# EAGLE library part 10CL006ZE144 (library Display_Custom)
Altera Cyclone 10 10CL006ZE144I8G
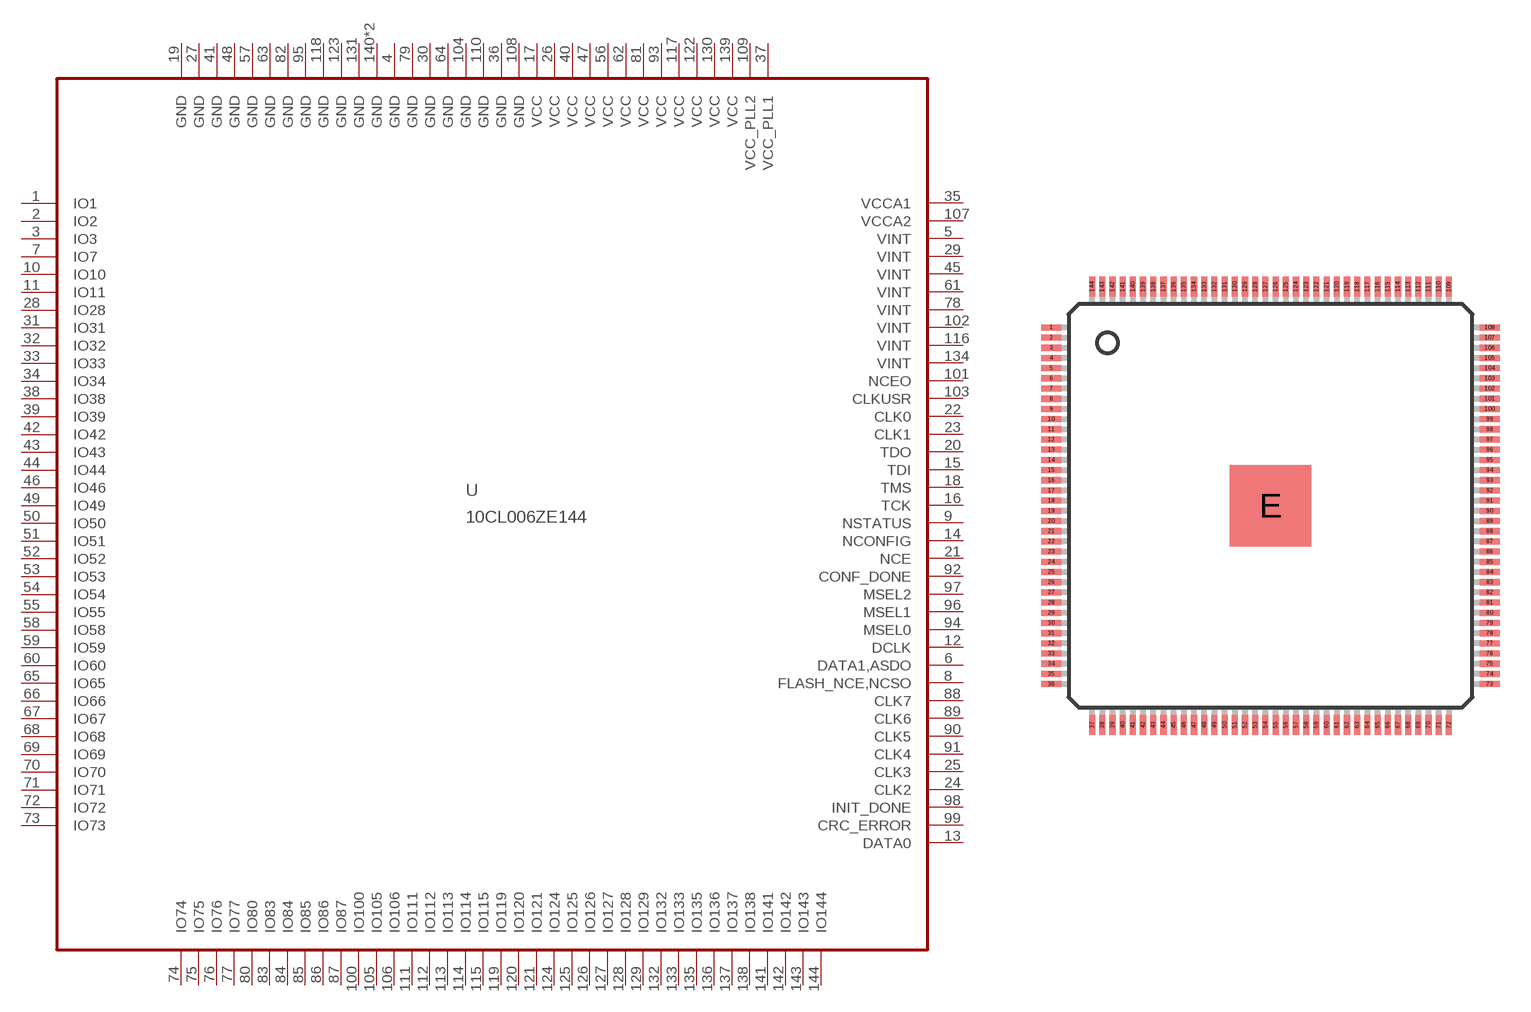
[diagram p0: symbol with the pads of EQFP144; footprint EQFP144]

Designator prefix -

## 10CL006ZE144  [EQFP144]
1  IO1  pas
2  IO2  pas
3  IO3  out
4  GND  pwr
5  VINT  pwr
6  DATA1,ASDO  in
7  IO7  out
8  FLASH_NCE,NCSO  in
9  NSTATUS  in
10  IO10
11  IO11
12  DCLK  in
13  DATA0  pwr
14  NCONFIG  in
15  TDI  in
16  TCK  in
17  VCC  pwr
18  TMS  in
19  GND  pwr
20  TDO  out
21  NCE  in
22  CLK0  pwr
23  CLK1  pwr
24  CLK2  in
25  CLK3  in
26  VCC  pwr
27  GND  pwr
28  IO28
29  VINT  pwr
30  GND  pwr
31  IO31
32  IO32
33  IO33
34  IO34
35  VCCA1  pwr
36  GND  pwr
37  VCC_PLL1  pwr
38  IO38
39  IO39
40  VCC  pwr
41  GND  pwr
42  IO42
43  IO43
44  IO44
45  VINT  pwr
46  IO46
47  VCC  pwr
48  GND  pwr
49  IO49
50  IO50
51  IO51
52  IO52
53  IO53
54  IO54
55  IO55
56  VCC  pwr
57  GND  pwr
58  IO58
59  IO59
60  IO60
61  VINT  pwr
62  VCC  pwr
63  GND  pwr
64  GND  pwr
65  IO65
66  IO66
67  IO67
68  IO68
69  IO69
70  IO70
71  IO71
72  IO72
73  IO73
74  IO74
75  IO75
76  IO76
77  IO77
78  VINT  pwr
79  GND  pwr
80  IO80
81  VCC  pwr
82  GND  pwr
83  IO83
84  IO84
85  IO85
86  IO86
87  IO87
88  CLK7  in
89  CLK6  in
90  CLK5  in
91  CLK4  in
92  CONF_DONE  in
93  VCC  pwr
94  MSEL0  in
95  GND  pwr
96  MSEL1  in
97  MSEL2  in
98  INIT_DONE  in
99  CRC_ERROR  in
100  IO100  pwr
101  NCEO  pwr
102  VINT  pwr
103  CLKUSR  pwr
104  GND  pwr
105  IO105
106  IO106
107  VCCA2  pwr
108  GND  pwr
109  VCC_PLL2  pwr
110  GND  pwr
111  IO111
112  IO112
113  IO113
114  IO114
115  IO115
116  VINT  pwr
117  VCC  pwr
118  GND  pwr
119  IO119
120  IO120
121  IO121
122  VCC  pwr
123  GND  pwr
124  IO124
125  IO125
126  IO126
127  IO127
128  IO128
129  IO129
130  VCC  pwr
131  GND  pwr
132  IO132
133  IO133
134  VINT  pwr
135  IO135
136  IO136
137  IO137  in
138  IO138  in
139  VCC  pwr
140  GND  pwr
141  IO141  in
142  IO142  in
143  IO143  in
144  IO144  in
E  GND  pwr

## Footprint EQFP144 (pad centres in mm)
EQFP144 Source: http://www.altera.com/literature/ds/144-EQFP.pdf
smd 1 x 0.3: 1 -10.75,8.75; 2 -10.75,8.25; 3 -10.75,7.75; 4 -10.75,7.25; 5 -10.75,6.75; 6 -10.75,6.25; 7 -10.75,5.75; 8 -10.75,5.25; 9 -10.75,4.75; 10 -10.75,4.25; 11 -10.75,3.75; 12 -10.75,3.25; 13 -10.75,2.75; 14 -10.75,2.25; 15 -10.75,1.75; 16 -10.75,1.25; 17 -10.75,0.75; 18 -10.75,0.25; 19 -10.75,-0.25; 20 -10.75,-0.75; 21 -10.75,-1.25; 22 -10.75,-1.75; 23 -10.75,-2.25; 24 -10.75,-2.75; 25 -10.75,-3.25; 26 -10.75,-3.75; 27 -10.75,-4.25; 28 -10.75,-4.75; 29 -10.75,-5.25; 30 -10.75,-5.75; 31 -10.75,-6.25; 32 -10.75,-6.75; 33 -10.75,-7.25; 34 -10.75,-7.75; 35 -10.75,-8.25; 36 -10.75,-8.75; 73 10.75,-8.75; 74 10.75,-8.25; 75 10.75,-7.75; 76 10.75,-7.25; 77 10.75,-6.75; 78 10.75,-6.25; 79 10.75,-5.75; 80 10.75,-5.25; 81 10.75,-4.75; 82 10.75,-4.25; 83 10.75,-3.75; 84 10.75,-3.25; 85 10.75,-2.75; 86 10.75,-2.25; 87 10.75,-1.75; 88 10.75,-1.25; 89 10.75,-0.75; 90 10.75,-0.25; 91 10.75,0.25; 92 10.75,0.75; 93 10.75,1.25; 94 10.75,1.75; 95 10.75,2.25; 96 10.75,2.75; 97 10.75,3.25; 98 10.75,3.75; 99 10.75,4.25; 100 10.75,4.75; 101 10.75,5.25; 102 10.75,5.75; 103 10.75,6.25; 104 10.75,6.75; 105 10.75,7.25; 106 10.75,7.75; 107 10.75,8.25; 108 10.75,8.75
smd 0.3 x 1: 37 -8.75,-10.75; 38 -8.25,-10.75; 39 -7.75,-10.75; 40 -7.25,-10.75; 41 -6.75,-10.75; 42 -6.25,-10.75; 43 -5.75,-10.75; 44 -5.25,-10.75; 45 -4.75,-10.75; 46 -4.25,-10.75; 47 -3.75,-10.75; 48 -3.25,-10.75; 49 -2.75,-10.75; 50 -2.25,-10.75; 51 -1.75,-10.75; 52 -1.25,-10.75; 53 -0.75,-10.75; 54 -0.25,-10.75; 55 0.25,-10.75; 56 0.75,-10.75; 57 1.25,-10.75; 58 1.75,-10.75; 59 2.25,-10.75; 60 2.75,-10.75; 61 3.25,-10.75; 62 3.75,-10.75; 63 4.25,-10.75; 64 4.75,-10.75; 65 5.25,-10.75; 66 5.75,-10.75; 67 6.25,-10.75; 68 6.75,-10.75; 69 7.25,-10.75; 70 7.75,-10.75; 71 8.25,-10.75; 72 8.75,-10.75; 109 8.75,10.75; 110 8.25,10.75; 111 7.75,10.75; 112 7.25,10.75; 113 6.75,10.75; 114 6.25,10.75; 115 5.75,10.75; 116 5.25,10.75; 117 4.75,10.75; 118 4.25,10.75; 119 3.75,10.75; 120 3.25,10.75; 121 2.75,10.75; 122 2.25,10.75; 123 1.75,10.75; 124 1.25,10.75; 125 0.75,10.75; 126 0.25,10.75; 127 -0.25,10.75; 128 -0.75,10.75; 129 -1.25,10.75; 130 -1.75,10.75; 131 -2.25,10.75; 132 -2.75,10.75; 133 -3.25,10.75; 134 -3.75,10.75; 135 -4.25,10.75; 136 -4.75,10.75; 137 -5.25,10.75; 138 -5.75,10.75; 139 -6.25,10.75; 140 -6.75,10.75; 141 -7.25,10.75; 142 -7.75,10.75; 143 -8.25,10.75; 144 -8.75,10.75
smd 4 x 4: E 0,0